# Altium footprint library power.PcbLib: 4 footprints
Each footprint in its own frame and in the unit in brackets; x right, y up, seen from the top. Pads: shape width x height; smd on the part's side, far side on the other; paste and mask are expansions set on the pad; w line width, h text height; cw(c..) or ccw(c..) is an arc to the next point about the centre after c.
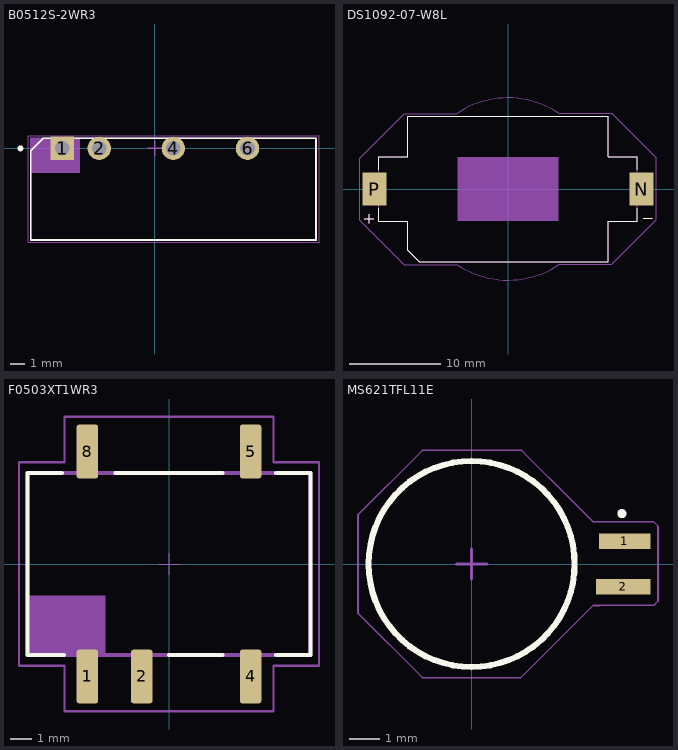
[diagram p0: the footprints below, top view; thin cyan lines are the x and y axes]

## B0512S-2WR3 [mm]
height 10.2
pads (4):
  rect 1.6x1.6 / inner round 1.19 / far side rect 1.19x1.19 hole 1: 1(-6.35,0)
  round 1.6 hole 1: 2(-3.81,0) 4(1.27,0) 6(6.35,0)
Top Overlay:
  circle w0.2: c-9.2,0 r0.1
  lines w0.127: -8.5,-6.275 11.05,-6.275 11.05,0.7 -7.625,0.7 -8.5,-0.175 -8.5,-6.275
Top Designator:
  text ".Designator" at -4.624,1.475 h0.6
Top Assembly:
  rectangle: -8.474,-1.675 -5.125,0.683
  lines w0.127: -8.5,-6.275 11.05,-6.275 11.05,0.7 -8.5,0.7 -8.5,-6.275
Top Courtyard:
  lines w0.05: -8.674,-6.436 -8.674,0.876 11.244,0.876 11.244,-6.436 -8.674,-6.436
  lines w0.1: -0.5,0 0.5,0 ; 0,-0.5 0,0.5
3D body "B0505S-2W.stp": height 10.1, standoff -4.1, extent -8.53,-6.3 11.07,0.7

## DS1092-07-W8L [mm]
height 5.51
pads (2):
  rect 2.59x3.61 smd: N(14.655,0) P(-14.655,0)
Top Overlay:
  lines w0.127: -15.75,-3.25 -14.75,-3.25 ; -15.25,-3.75 -15.25,-2.75 ; -14.2,-2.125 -14.2,-3.531 -11,-3.531 -11,-6.725 -9.725,-8 11,-8 11,-3.531 14.2,-3.531 14.2,-2.125 ; -14.2,2.125 -14.2,3.531 -11,3.531 -11,8 11,8 11,3.531 14.2,3.531 14.2,2.125 ; 14.85,-3.2 15.85,-3.2
Top Designator:
  text ".Designator" at -12.499,8.85 h0.6
Top Assembly:
  region: 5.5,-3.505 -5.5,-3.505 -5.5,3.505 5.5,3.505
  lines w0.1: -5.65,8.25 -11.375,8.25 -16.25,3.375 -16.25,-3.426 -11.376,-8.3 -5.575,-8.3 ; -5.65,8.251 cw(c0,0) 5.576,8.301 ; -5.576,-8.301 ccw(c0,0) 5.65,-8.251 ; 5.575,8.3 11.375,8.3 16.25,3.425 16.25,-3.375 11.375,-8.25 5.65,-8.25
  lines w0.127: -15.75,-3.25 -14.75,-3.25 ; -15.25,-3.75 -15.25,-2.75 ; 14.85,-3.2 15.85,-3.2 ; -14.2,-3.531 -11,-3.531 -11,-6.725 -9.725,-8 11,-8 11,-3.531 14.2,-3.531 14.2,3.531 11,3.531 11,8 -11,8 -11,3.531 -14.2,3.531 -14.2,-3.531
Top Courtyard:
  lines w0.05: -5.65,8.25 -11.375,8.25 -16.25,3.375 -16.25,-3.426 -11.376,-8.3 -5.575,-8.3 ; -5.65,8.251 cw(c0,0) 5.576,8.301 ; -5.576,-8.301 ccw(c0,0) 5.65,-8.251 ; 5.575,8.3 11.375,8.3 16.25,3.425 16.25,-3.375 11.375,-8.25 5.65,-8.25
  lines w0.1: -0.5,0 0.5,0 ; 0,-0.5 0,0.5
3D body "step_temp.STEP": height 5.87, standoff 0.18, extent -15.915,-7.993 15.911,8.009

## F0503XT1WR3 [mm]
pads (5):
  rrect20% 1x2.5 smd: 1(-3.81,-5.25) 2(-1.27,-5.25) 4(3.81,-5.25) 5(3.81,5.25) 8(-3.81,5.25)
Top Overlay:
  lines w0.2: -5,4.25 -6.5,4.25 -6.6,4.25 -6.6,-4.25 -4.9,-4.25 ; -2.5,4.25 2.5,4.25 ; 0,-4.25 2.5,-4.25 ; 5,-4.25 6.6,-4.25 6.6,4.25 5,4.25
Top Designator:
  text ".Designator" at -6.599,7.3 h0.6
Top Assembly:
  rectangle: -6.56,-4.195 -2.975,-1.475
  lines w0.2: -6.6,-4.25 6.6,-4.25 6.6,4.25 -6.6,4.25 -6.6,-4.25
Top Courtyard:
  lines w0.05: -0.5,0 0.5,0 ; 0,-0.5 0,0.5
  lines w0.1: -7,-4.75 -7,4.75 -4.875,4.75 -4.875,6.875 4.875,6.875 4.875,4.75 7,4.75 7,-4.75 4.875,-4.75 4.875,-6.875 -4.875,-6.875 -4.875,-4.75 -7,-4.75
3D body "MPF0503XT-1W.stp": height 7.3, standoff 0.05, extent -6.6,-5.7 6.6,5.7

## MS621TFL11E [mm]
pads (2):
  rect 1.7x0.5 smd: 1(5.05,0.75)
  rect 1.8x0.5 smd: 2(5,-0.75)
Top Overlay:
  lines w0.2: 4.908,1.662 ccw(c4.958,1.662) 5.008,1.662 ; 4.908,1.662 ccw(c4.958,1.662) 5.008,1.662 ; 4.908,1.662 cw(c4.958,1.662) 5.008,1.662 ; -3.4,0 ccw(c0,0) 3.4,0 ccw(c0,0) -3.4,0
Top Designator:
  text ".Designator" at -3.049,4.15 h0.6
Top Courtyard:
  lines w0.05: -3.75,-1.625 -3.75,1.625 -1.625,3.75 1.65,3.75 3.4,2 4,1.4 6,1.4 6.15,1.25 6.15,-1.225 6.009,-1.366 4.238,-1.366 4.235,-1.369 4.006,-1.369 1.625,-3.75 -1.625,-3.75 -3.75,-1.625
  lines w0.1: -0.5,0 0.5,0 ; 0,-0.5 0,0.5 ; -3.4,0 ccw(c0,0) 3.4,0 ccw(c0,0) -3.4,0
3D body "User Library-ms621fe.STEP": height 2.85, standoff 0.15, extent -3.4,-3.4 5.9,3.4